# Altium schematic symbol library SCH - SENSOR - CURRENT - TI INA229.SCHLIB: 1 symbol
Pins are listed as number, name and electrical type; pins without a type are passive.

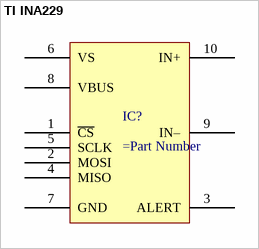
[diagram p0: symbol TI INA229]

## TI INA229
designator IC?
pins: 1 ~{CS}, 2 MOSI, 3 ALERT, 4 MISO, 5 SCLK, 6 VS, 7 GND, 8 VBUS, 9 IN–, 10 IN+